# Altium footprint library OSSI.PCBLIB: 194 footprints (part 6 of 13)
Each footprint in its own frame and in the unit in brackets; x right, y up, seen from the top. Pads: shape width x height; smd on the part's side, far side on the other; paste and mask are expansions set on the pad; w line width, h text height; cw(c..) or ccw(c..) is an arc to the next point about the centre after c.
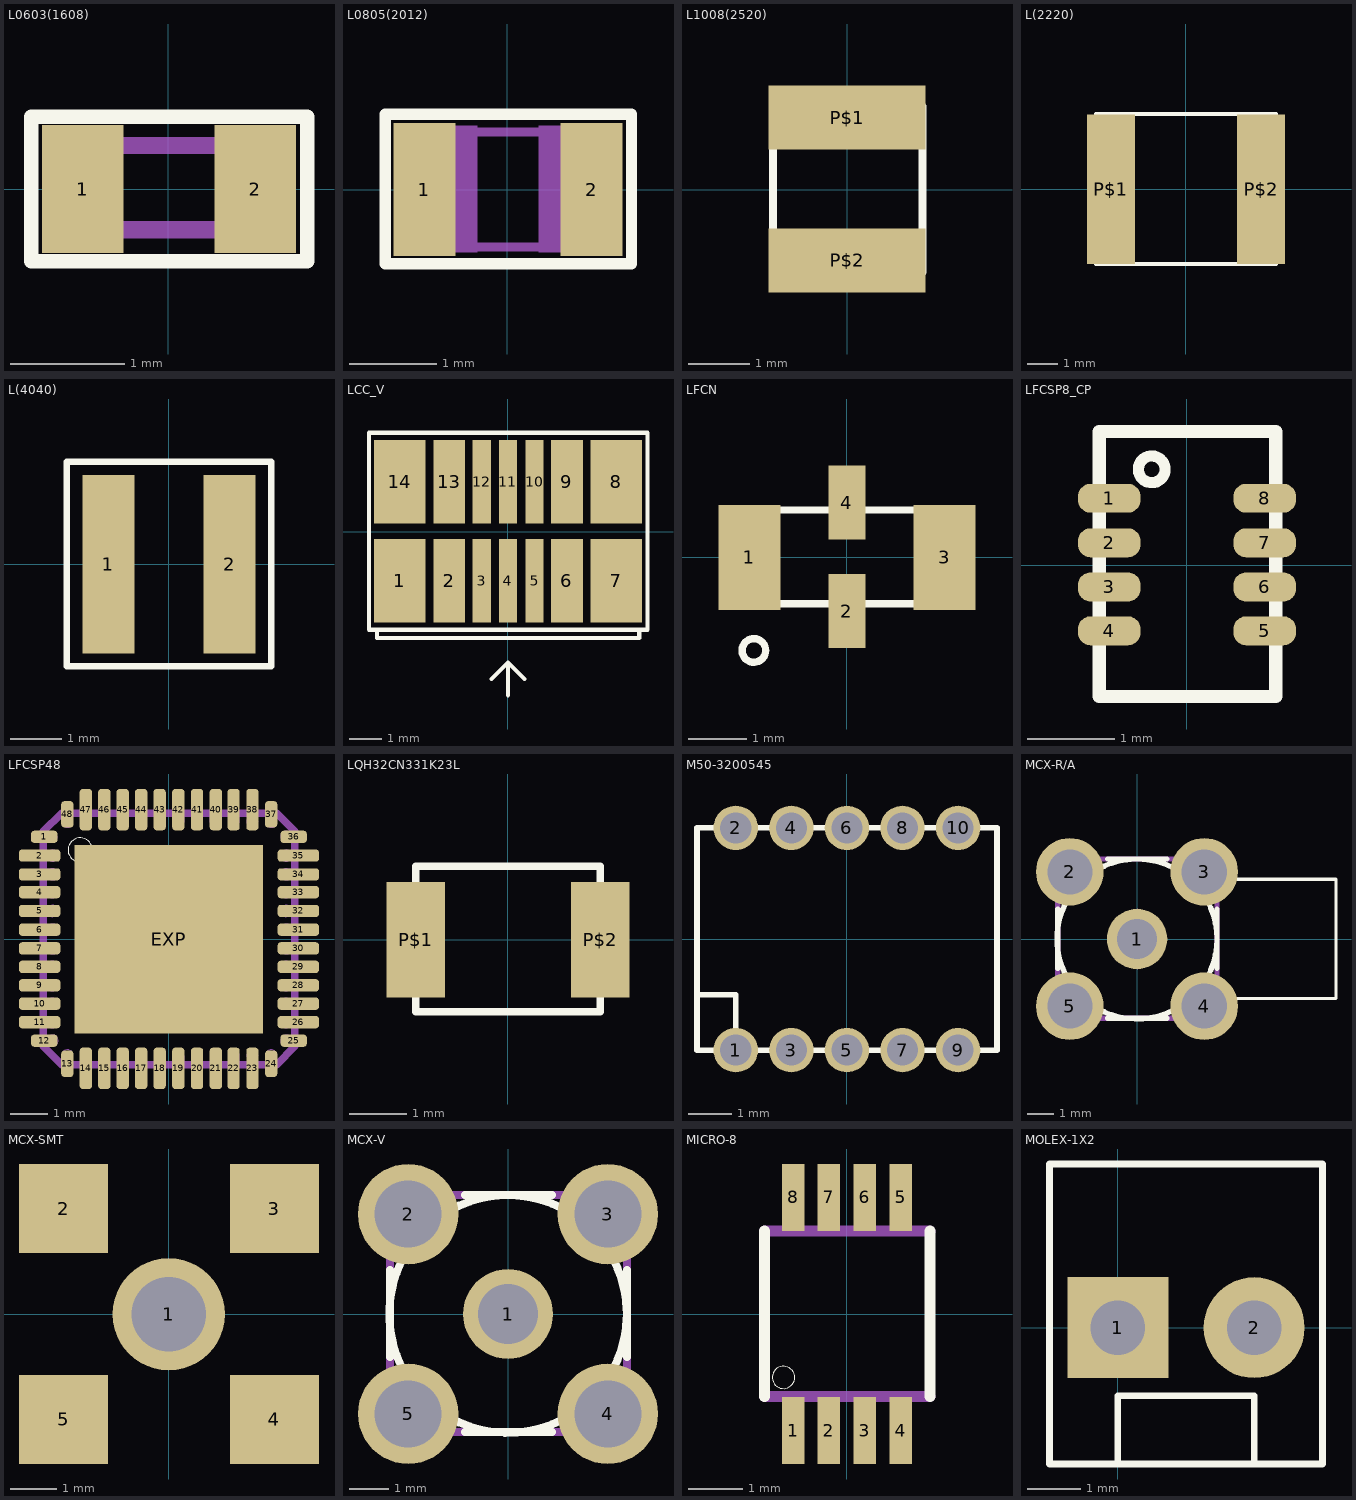
[diagram p5: the footprints below, top view; thin cyan lines are the x and y axes]

## L0603(1608) [mil]
pads (2):
  rect 28x44 smd: 1(-29.53,0) 2(30,0)
Top Overlay:
  lines w5: -47.24,-25 48,-25 48,25 -47.24,25 -47.24,-25
Mechanical 2:
  text ">NAME" at -35,35 h77.5
Mechanical 4:
  text ">VALUE" at -35,-80 h77.5
Mechanical 16:
  rectangle: 17,-17 33,17
  rectangle: -33,-17 -17,17
  lines w6: -17.01,-14.02 18,-14.02 ; -17.01,15 18,15

## L0805(2012) [mil]
pads (2):
  rect 28x60 smd: 1(-37.4,0) 2(38,0)
Top Overlay:
  lines w5: -55.12,-33.46 56,-33.46 56,34 -55.12,34 -55.12,-33.46
Mechanical 2:
  text ">NAME" at -35,40 h77.5
Mechanical 4:
  text ">VALUE" at -35,-90 h77.5
Mechanical 16:
  rectangle: -43,-28.5 -13.47,29
  rectangle: 14,-28.5 44,29
  lines w4: -15,26 15,26 ; -14.02,-25.98 15,-25.98

## L1008(2520) [mil]
pads (2):
  rect 100x41 smd: P$1(0,46) P$2(0,-45.08)
Top Overlay:
  lines w5: -47.24,-52.56 48,-52.56 48,53 -47.24,53 -47.24,-52.56
Mechanical 2:
  text ">NAME" at -75,-125 h77.5
Mechanical 4:
  text ">VALUE" at 125,-125 h77.5

## L(2220) [mil]
pads (2):
  rect 63x197 smd: P$1(-98.43,0) P$2(99,0)
Top Overlay:
  lines w5: -118.11,-98.43 119,-98.43 119,99 -118.11,99 -118.11,-98.43
Mechanical 2:
  text ">NAME" at -118.11,119 h77.5
Mechanical 4:
  text ">VALUE" at -118.11,-157.48 h77.5

## L(4040) [mil]
pads (2):
  rect 40x138 smd: 1(-46.65,0) 2(47,0)
Top Overlay:
  lines w5: -78.74,-78.74 79,-78.74 79,79 -78.74,79 -78.74,-78.74
Mechanical 2:
  text ">NAME" at -125,100 h77.5
Mechanical 4:
  text ">VALUE" at -125,-150 h77.5

## LCC_V [mil]
pads (14):
  rect 62x101 smd: 1(-129.92,-59.06) 7(130,-59.06) 8(130,60) 14(-129.92,60)
  rect 38x101 smd: 2(-70.87,-59.06) 6(71,-59.06) 9(71,60) 13(-70.87,60)
  rect 22x101 smd: 3(-31.5,-59.06) 4(0,-59.06) 5(32,-59.06) 10(32,60) 11(0,60) 12(-31.5,60)
Top Overlay:
  lines w5: -19.68,-177.17 0,-157.48 ; 0,-196.85 0,-157.48 ; 20,-177.17 0,-157.48 ; -157.48,-118.11 -167.32,-118.11 -167.32,119 168,119 168,-118.11 158,-118.11 ; -157.48,-118.11 158,-118.11 ; -157.48,-118.11 -157.48,-127.95 158,-127.95 158,-118.11
Mechanical 2:
  text ">NAME" at -196.85,-118.11 h77.5
Mechanical 4:
  text ">VALUE" at 237,-118.11 h77.5

## LFCN [mil]
pads (4):
  rect 42x71 smd: 1(-65.94,0) 3(66,0)
  rect 25x50 smd: 2(0,-36.42) 4(0,37)
Top Overlay:
  circle w5: c-62.99,-62.99 r8
  lines w5: -62.99,-31.5 63,-31.5 63,32 -62.99,32 -62.99,-31.5
Mechanical 2:
  text ">NAME" at -196.85,-157.48 h108.5
Mechanical 4:
  text ">VALUE" at -196.85,-236.22 h108.5

## LFCSP8_CP [mil]
pads (8):
  rrect85% 28x13 smd: 1(-34.84,30) 2(-34.84,10) 3(-34.84,-9.84) 4(-34.84,-29.53) 5(35,-29.53) 6(35,-9.84) 7(35,10) 8(35,30)
Top Overlay:
  circle w5: c-15.75,43 r6
  lines w6: -39.37,-59.06 -39.37,60 40,60 40,-59.06 -39.37,-59.06
Top Solder:
  rectangle: -67.72,2 -33.46,19
  rectangle: -67.72,22 -33.46,38
  rectangle: -67.72,-18.11 -33.46,-1.57
  rectangle: -67.72,-37.8 -33.46,-21.26
  rectangle: 33,2 67,19
  rectangle: 33,22 67,38
  rectangle: 33,-18.11 67,-1.57
  rectangle: 33,-37.8 67,-21.26
Mechanical 2:
  text ">NAME" at -50.3,66 h77.5
Mechanical 4:
  text ">VALUE" at -49.31,-121.22 h77.5

## LFCSP48 [mil]
pads (49):
  rrect50% 28x13 smd: 1(-132.87,109) 12(-132.87,-108.27) 25(133,-108.27) 36(133,109)
  rrect50% 44x13 smd: 2(-137.8,89) 3(-137.8,69) 4(-137.8,50) 5(-137.8,30) 6(-137.8,10) 7(-137.8,-9.84) 8(-137.8,-29.53) 9(-137.8,-49.21) 10(-137.8,-68.9) 11(-137.8,-88.58) 26(138,-88.58) 27(138,-68.9) 28(138,-49.21) 29(138,-29.53) 30(138,-9.84) 31(138,10) 32(138,30) 33(138,50) 34(138,69) 35(138,89)
  rrect50% 13x28 smd: 13(-108.27,-132.87) 24(109,-132.87) 37(109,133) 48(-108.27,133)
  rrect50% 13x44 smd: 14(-88.58,-137.8) 15(-68.9,-137.8) 16(-49.21,-137.8) 17(-29.53,-137.8) 18(-9.84,-137.8) 19(10,-137.8) 20(30,-137.8) 21(50,-137.8) 22(69,-137.8) 23(89,-137.8) 38(89,138) 39(69,138) 40(50,138) 41(30,138) 42(10,138) 43(-9.84,138) 44(-29.53,138) 45(-49.21,138) 46(-68.9,138) 47(-88.58,138)
  rect 201x201 smd: EXP(0,0)
Top Overlay:
  circle w0: c-94.49,95 r13
Top Paste:
  rectangle: -98.43,-98.43 99,99
  lines w12: -153.54,-88.58 -122.05,-88.58 ; -153.54,-68.9 -122.05,-68.9 ; -153.54,-49.21 -122.05,-49.21 ; -153.54,-29.53 -122.05,-29.53 ; -153.54,-9.84 -122.05,-9.84 ; -153.54,10 -122.05,10 ; -153.54,30 -122.05,30 ; -153.54,50 -122.05,50 ; -153.54,69 -122.05,69 ; -153.54,89 -122.05,89 ; -140.75,-108.27 -125,-108.27 ; -140.75,109 -125,109 ; -108.27,-140.75 -108.27,-125 ; -108.27,125 -108.27,141 ; -88.58,-153.54 -88.58,-122.05 ; -88.58,123 -88.58,154 ; -68.9,-153.54 -68.9,-122.05 ; -68.9,123 -68.9,154 ; -49.21,-153.54 -49.21,-122.05 ; -49.21,123 -49.21,154 ; -29.53,-153.54 -29.53,-122.05 ; -29.53,123 -29.53,154 ; -9.84,-153.54 -9.84,-122.05 ; -9.84,123 -9.84,154 ; 10,-153.54 10,-122.05 ; 10,123 10,154 ; 30,-153.54 30,-122.05 ; 30,123 30,154 ; 50,-153.54 50,-122.05 ; 50,123 50,154 ; 69,-153.54 69,-122.05 ; 69,123 69,154 ; 89,-153.54 89,-122.05 ; 89,123 89,154 ; 109,-140.75 109,-125 ; 109,125 109,141 ; 123,-88.58 154,-88.58 ; 123,-68.9 154,-68.9 ; 123,-49.21 154,-49.21 ; 123,-29.53 154,-29.53 ; 123,-9.84 154,-9.84 ; 123,10 154,10 ; 123,30 154,30 ; 123,50 154,50 ; 123,69 154,69 ; 123,89 154,89 ; 125,-108.27 141,-108.27 ; 125,109 141,109
Top Solder:
  rectangle: -102.36,-102.36 103,103
  lines w16: -153.54,-88.58 -122.05,-88.58 ; -153.54,-68.9 -122.05,-68.9 ; -153.54,-49.21 -122.05,-49.21 ; -153.54,-29.53 -122.05,-29.53 ; -153.54,-9.84 -122.05,-9.84 ; -153.54,10 -122.05,10 ; -153.54,30 -122.05,30 ; -153.54,50 -122.05,50 ; -153.54,69 -122.05,69 ; -153.54,89 -122.05,89 ; -140.75,-108.27 -125,-108.27 ; -140.75,109 -125,109 ; -108.27,-136.81 -108.27,-125 ; -108.27,125 -108.27,141 ; -88.58,-153.54 -88.58,-122.05 ; -88.58,123 -88.58,154 ; -68.9,-153.54 -68.9,-122.05 ; -68.9,123 -68.9,154 ; -49.21,-153.54 -49.21,-122.05 ; -49.21,123 -49.21,154 ; -29.53,-153.54 -29.53,-122.05 ; -29.53,123 -29.53,154 ; -9.84,-153.54 -9.84,-122.05 ; -9.84,123 -9.84,154 ; 10,-153.54 10,-122.05 ; 10,123 10,154 ; 30,-153.54 30,-122.05 ; 30,123 30,154 ; 50,-153.54 50,-122.05 ; 50,123 50,154 ; 69,-153.54 69,-122.05 ; 69,123 69,154 ; 89,-153.54 89,-122.05 ; 89,123 89,154 ; 109,-140.75 109,-125 ; 109,125 109,141 ; 123,-88.58 154,-88.58 ; 123,-68.9 154,-68.9 ; 123,-49.21 154,-49.21 ; 123,-29.53 154,-29.53 ; 123,-9.84 154,-9.84 ; 123,10 154,10 ; 123,30 154,30 ; 123,50 154,50 ; 123,69 154,69 ; 123,89 154,89 ; 125,-108.27 141,-108.27 ; 125,109 141,109
Mechanical 2:
  text ">NAME" at -137.8,158 h108.5
Mechanical 4:
  text ">VALUE" at -137.8,-231.69 h108.5
Mechanical 16:
  circle w0: c-124.02,109 r5
  circle w0: c-124.02,89 r6
  circle w0: c-124.02,69 r6
  circle w0: c-124.02,50 r6
  circle w0: c-124.02,30 r6
  circle w0: c-124.02,10 r6
  circle w0: c-124.02,-9.84 r6
  circle w0: c-124.02,-29.53 r6
  circle w0: c-124.02,-49.21 r6
  circle w0: c-124.02,-68.9 r6
  circle w0: c-124.02,-88.58 r6
  circle w0: c-124.02,-108.27 r6
  circle w0: c-108.27,-124.02 r6
  circle w0: c-88.58,-124.02 r6
  circle w0: c-68.9,-124.02 r6
  circle w0: c-49.21,-124.02 r6
  circle w0: c-29.53,-124.02 r6
  circle w0: c-9.84,-124.02 r6
  circle w0: c10,-124.02 r6
  circle w0: c30,-124.02 r6
  circle w0: c50,-124.02 r6
  circle w0: c69,-124.02 r6
  circle w0: c89,-124.02 r6
  circle w0: c109,-124.02 r6
  circle w0: c125,-108.27 r6
  circle w0: c125,-88.58 r6
  circle w0: c125,-68.9 r6
  circle w0: c125,-49.21 r6
  circle w0: c125,-29.53 r6
  circle w0: c125,-9.84 r6
  circle w0: c125,10 r6
  circle w0: c125,30 r6
  circle w0: c125,50 r6
  circle w0: c125,69 r6
  circle w0: c125,89 r6
  circle w0: c125,109 r6
  circle w0: c109,125 r6
  circle w0: c89,125 r6
  circle w0: c69,125 r6
  circle w0: c50,125 r6
  circle w0: c30,125 r6
  circle w0: c10,125 r6
  circle w0: c-9.84,125 r6
  circle w0: c-29.53,125 r6
  circle w0: c-49.21,125 r6
  circle w0: c-68.9,125 r6
  circle w0: c-88.58,125 r6
  circle w0: c-108.27,125 r6
  rectangle: -136.81,103 -124.02,115
  rectangle: -136.81,83 -124.02,95
  rectangle: -136.81,63 -124.02,75
  rectangle: -136.81,44 -124.02,56
  rectangle: -136.81,24 -124.02,36
  rectangle: -136.81,4 -124.02,16
  rectangle: -136.81,-15.75 -124.02,-3.94
  rectangle: -136.81,-35.43 -124.02,-23.62
  rectangle: -136.81,-55.12 -124.02,-43.31
  rectangle: -136.81,-74.8 -124.02,-62.99
  rectangle: -136.81,-94.49 -124.02,-82.68
  rectangle: -136.81,-114.17 -124.02,-102.36
  region: -102.36,-136.81 -102.36,-124.02 -114.17,-124.02 -114.17,-136.81
  region: -82.68,-136.81 -82.68,-124.02 -94.49,-124.02 -94.49,-136.81
  region: -62.99,-136.81 -62.99,-124.02 -74.8,-124.02 -74.8,-136.81
  region: -43.31,-136.81 -43.31,-124.02 -55.12,-124.02 -55.12,-136.81
  region: -23.62,-136.81 -23.62,-124.02 -35.43,-124.02 -35.43,-136.81
  region: -3.94,-136.81 -3.94,-124.02 -15.75,-124.02 -15.75,-136.81
  region: 16.41,-136.91 16.41,-123.91 4.59,-123.91 4.59,-136.91
  region: 35.91,-136.41 35.91,-124.41 24.09,-124.41 24.09,-136.41
  region: 55.41,-136.91 55.41,-123.91 43.59,-123.91 43.59,-136.91
  region: 75.41,-136.91 75.41,-123.91 63.59,-123.91 63.59,-136.91
  region: 94.91,-136.41 94.91,-124.41 83.09,-124.41 83.09,-136.41
  region: 114.41,-136.91 114.41,-123.91 102.59,-123.91 102.59,-136.91
  region: 137,-102.36 125,-102.36 125,-114.17 137,-114.17
  region: 137,-82.68 125,-82.68 125,-94.49 137,-94.49
  region: 137,-62.99 125,-62.99 125,-74.8 137,-74.8
  region: 137,-43.31 125,-43.31 125,-55.12 137,-55.12
  region: 137,-23.62 125,-23.62 125,-35.43 137,-35.43
  region: 137,-3.94 125,-3.94 125,-15.75 137,-15.75
  region: 137,16 125,16 125,4 137,4
  region: 137,36 125,36 125,24 137,24
  region: 137,56 125,56 125,44 137,44
  region: 137,75 125,75 125,63 137,63
  region: 137,95 125,95 125,83 137,83
  region: 137,115 125,115 125,103 137,103
  region: 102.5,137.5 102.5,124.5 114.5,124.5 114.5,137.5
  region: 83,137 83,125 95,125 95,137
  region: 63.5,137.5 63.5,124.5 75.5,124.5 75.5,137.5
  region: 43.5,137.5 43.5,124.5 55.5,124.5 55.5,137.5
  region: 24,137 24,125 36,125 36,137
  region: 4.5,137.5 4.5,124.5 16.5,124.5 16.5,137.5
  region: -15.84,137.4 -15.84,124.6 -3.84,124.6 -3.84,137.4
  region: -35.53,137.4 -35.53,124.6 -23.53,124.6 -23.53,137.4
  region: -55.21,137.4 -55.21,124.6 -43.21,124.6 -43.21,137.4
  region: -74.9,137.4 -74.9,124.6 -62.9,124.6 -62.9,137.4
  region: -94.58,137.4 -94.58,124.6 -82.58,124.6 -82.58,137.4
  region: -114.27,137.4 -114.27,124.6 -102.27,124.6 -102.27,137.4
  lines w8: -133.86,-114.17 -114.17,-133.86 115,-133.86 134,-114.17 134,115 115,134 -114.17,134 -133.86,115 -133.86,-114.17

## LQH32CN331K23L [mil]
pads (2):
  rect 40x79 smd: P$1(-62.99,0) P$2(63,0)
Top Overlay:
  lines w5: -62.99,-49.21 -62.99,50 63,50 63,-49.21 -62.99,-49.21
Mechanical 2:
  text ">NAME" at -125,75 h77.5
Mechanical 4:
  text ">VALUE" at -125,-125 h77.5

## M50-3200545 [mil]
pads (10):
  round 40 hole 28: 1(-100,-100) 2(-100,100) 3(-50,-100) 4(-50,100) 5(0,-100) 6(0,100) 7(50,-100) 8(50,100) 9(100,-100) 10(100,100)
Top Overlay:
  lines w5: -134.84,-50 -134.84,100 135,100 135,-100 -100,-100 ; -134.84,-50 -134.84,-100 -100,-100 ; -134.84,-50 -100,-50 -100,-100
Mechanical 2:
  text ">NAME" at -150,150 h77.5
Mechanical 4:
  text ">VALUE" at -150,-200 h77.5

## MCX-R/A [mil]
pads (5):
  round 90 hole 60: 1(0,0)
  round 100.5 hole 67: 2(-100,100) 3(100,100) 4(100,-100) 5(-100,-100)
Top Overlay:
  circle w8: c0,0 r119
  lines w5: 119,-88.58 296,-88.58 296,89 119,89
  lines w8: -118.11,-43.31 -118.11,44 ; -43.31,-118.11 44,-118.11 ; -43.31,119 44,119 ; 119,-43.31 119,44
Mechanical 2:
  text ">NAME" at -100,175 h77.5
Mechanical 4:
  text ">VALUE" at -125,-225 h77.5
Mechanical 16:
  lines w8: -118.11,-118.11 119,-118.11 119,119 -118.11,119 -118.11,-118.11

## MCX-SMT [mil]
pads (5):
  round 94.5 hole 63: 1(0,0)
  rect 75x75 smd: 2(-88.58,89) 3(89,89) 4(89,-88.58) 5(-88.58,-88.58)

## MCX-V [mil]
pads (5):
  round 90 hole 60: 1(0,0)
  round 100.5 hole 67: 2(-100,100) 3(100,100) 4(100,-100) 5(-100,-100)
Top Overlay:
  circle w8: c0,0 r119
  lines w8: -118.11,-43.31 -118.11,44 ; -43.31,-118.11 44,-118.11 ; -43.31,119 44,119 ; 119,-43.31 119,44
Mechanical 2:
  text ">NAME" at -100,175 h77.5
Mechanical 4:
  text ">VALUE" at -125,-225 h77.5
Mechanical 16:
  lines w8: -118.11,-118.11 119,-118.11 119,119 -118.11,119 -118.11,-118.11

## MICRO-8 [mil]
pads (8):
  rect 16x48 smd: 1(-38.39,-83.46) 2(-12.8,-83.46) 3(13,-83.46) 4(39,-83.46) 5(39,84) 6(13,84) 7(-12.8,84) 8(-38.39,84)
Top Overlay:
  circle w0: c-45.28,-45.28 r8
  lines w8: -59.06,-59.06 -59.06,60 ; 60,-59.06 60,60
Mechanical 2:
  text ">NAME" at -67.87,-59.21 h62
Mechanical 4:
  text ">VALUE" at 112,-63.46 h62
Mechanical 16:
  rectangle: -44.29,-96.46 -32.48,-61.02
  rectangle: -18.7,-96.46 -6.89,-61.02
  rectangle: 7,-96.46 19,-61.02
  rectangle: 33,-96.46 45,-61.02
  rectangle: 33,62 45,97
  rectangle: 7,62 19,97
  rectangle: -18.7,62 -6.89,97
  rectangle: -44.29,62 -32.48,97
  lines w8: -59.06,-59.06 60,-59.06 ; -59.06,60 60,60

## MOLEX-1X2 [mil]
pads (2):
  rect 74x74 hole 40: 1(0,0)
  round 74 hole 40: 2(100,0)
Top Overlay:
  lines w5: 0,-100 100,-100 ; 0,-100 -50,-100 -50,120 150,120 150,-100 100,-100 ; 0,-100 0,-50 100,-50 100,-100